# Altium footprint library UCPD.PcbLib: 11 footprints
Each footprint in its own frame and in the unit in brackets; x right, y up, seen from the top. Pads: shape width x height; smd on the part's side, far side on the other; paste and mask are expansions set on the pad; w line width, h text height; cw(c..) or ccw(c..) is an arc to the next point about the centre after c.
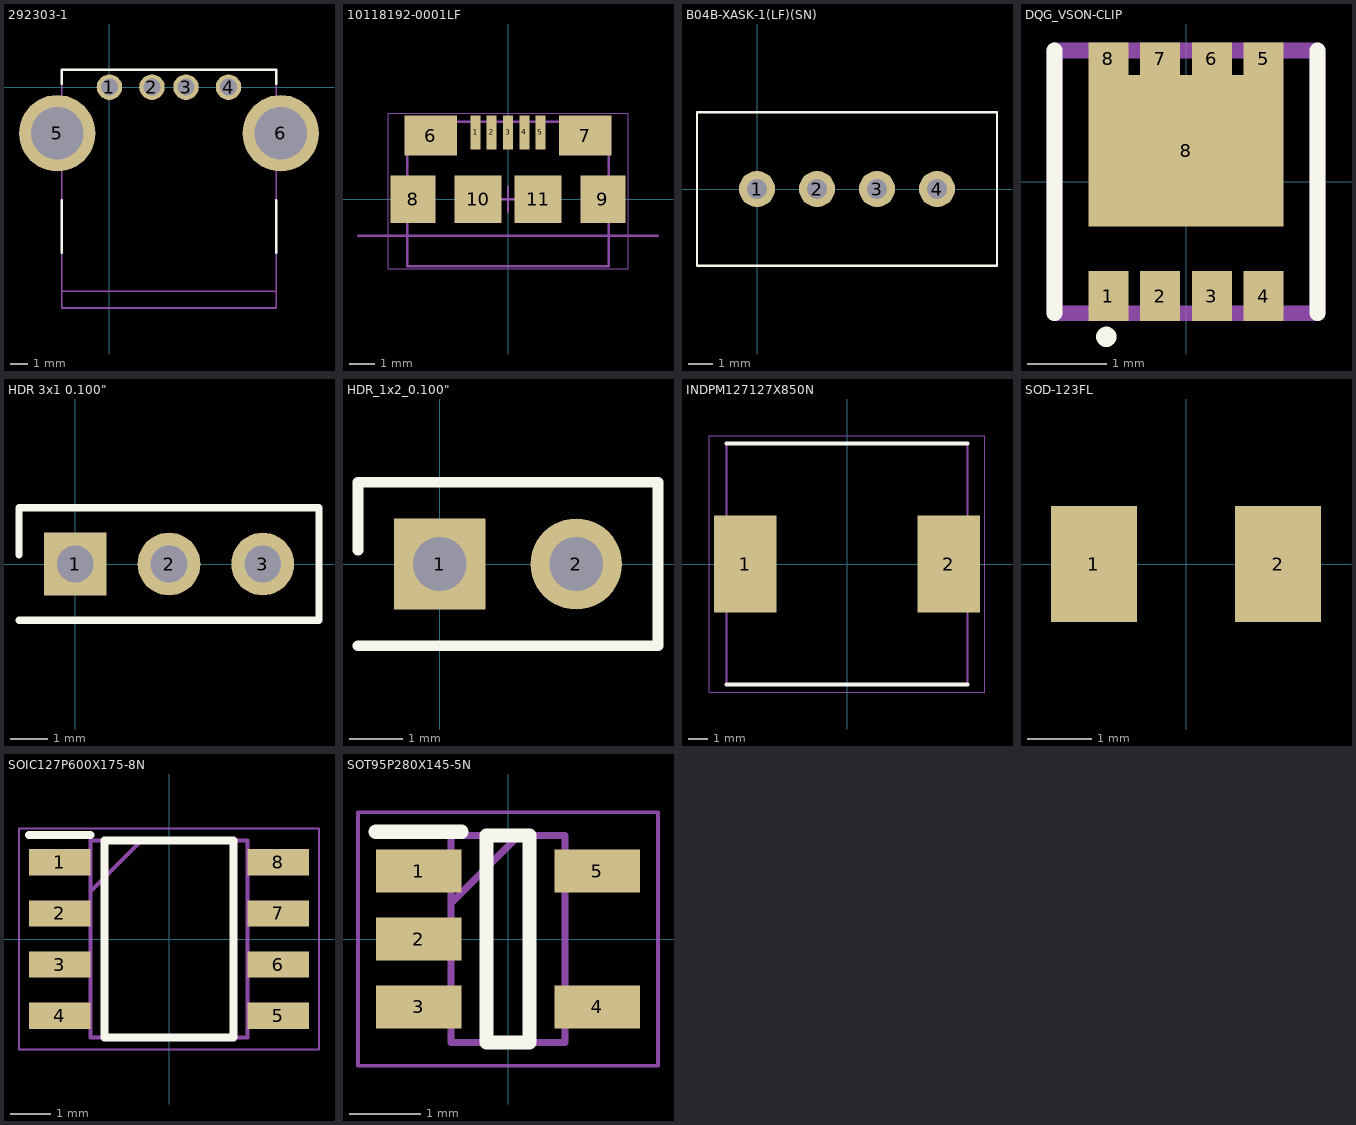
[diagram p0: the footprints below, top view; thin cyan lines are the x and y axes]

## 292303-1 [mm] "CONN RCPT USB2.0 TYPEA 4POS R/A"
pads (6):
  round 1.5 hole 1: 1(0,0) 2(2.5,0) 3(4.5,0) 4(7,0)
  round 4.5 hole 3.1: 5(-3.07,-2.71) 6(10.07,-2.71)
Top Overlay:
  lines w0.152: -2.8,-9.725 -2.8,-6.65 ; -2.8,0.2 -2.8,1.01 9.8,1.01 9.8,0.2 ; 9.8,-9.725 9.8,-6.65
Mechanical 13:
  lines w0.1: -2.8,-12 9.8,-12 ; -2.8,-12.99 -2.8,1.01 9.8,1.01 9.8,-12.99 -2.8,-12.99
3D body "292303-1.stp": height 7.82, standoff -3.54, extent -4.616,-13 11.616,1

## 10118192-0001LF [mm] "SMD, 5-Leads, Body 8.05x5.77mm, Pitch 0.65mm"
height 2.7
pads (11):
  rect 0.4x1.35 smd: 1(-1.3,2.675) 2(-0.65,2.675) 3(0,2.675) 4(0.65,2.675) 5(1.3,2.675)
  rect 2.1x1.6 smd: 6(-3.1,2.55) 7(3.1,2.55)
  rect 1.8x1.9 smd: 8(-3.8,0) 9(3.8,0)
  rect 1.9x1.9 smd: 10(-1.2,0) 11(1.2,0)
Mechanical 13:
  lines w0.1: -6,-1.45 6,-1.45 ; -4.025,-2.67 -4.025,3.1 4.025,3.1 4.025,-2.67 -4.025,-2.67
  text "PCB Edge" at -11.049,-1.016 h0.75
Mechanical 15:
  lines w0.05: -4.8,-2.77 -4.8,3.45 4.8,3.45 4.8,-2.77 -4.8,-2.77
  lines w0.1: -0.5,0 0.5,0 ; 0,-0.5 0,0.5
3D body "10118192C.stp": height 2.75, standoff -0.25, extent -3.956,-2.667 3.956,2.994

## B04B-XASK-1(LF)(SN) [mm]
pads (4):
  round 1.5 hole 0.85: 1(0,0) 2(2.5,0) 3(5,0) 4(7.5,0)
Top Overlay:
  lines w0.102: -2.5,-3.2 -2.5,3.2 10,3.2 10,-3.2 -2.5,-3.2

## DQG_VSON-CLIP [mm]
pads (9):
  rect 0.5x0.63 smd: 1(-0.975,-1.435) 2(-0.325,-1.435) 3(0.325,-1.435) 4(0.975,-1.435)
  rect 0.5x0.41 smd: 5(0.975,1.545) 6(0.325,1.545) 7(-0.325,1.545) 8(-0.975,1.545)
  rect 2.45x1.9 smd: 8(0,0.39)
Top Overlay:
  circle w0.2: c-1.001,-1.946 r0.027
  lines w0.2: -1.65,-1.65 -1.65,1.65 ; 1.65,-1.65 1.65,1.65
Mechanical 13:
  lines w0.2: -1.65,-1.65 1.65,-1.65 1.65,1.65 -1.65,1.65 -1.65,-1.65

## HDR 3x1 0.100" [mm]
pads (3):
  rect 1.7x1.7 / inner round 1.7 / far side rect 1.7x1.7 hole 1: 1(0,0)
  round 1.7 hole 1: 2(2.54,0) 3(5.08,0)
Top Overlay:
  lines w0.2: -1.524,-1.524 6.604,-1.524 6.604,1.524 -1.524,1.524 -1.524,0.254
3D body "PRPC003SAAN-RC.STEP": height 7.62, standoff -3.05, extent -1.27,-1.27 6.35,1.27

## HDR_1x2_0.100" [mm]
pads (2):
  rect 1.7x1.7 / inner round 1.7 / far side rect 1.7x1.7 hole 1: 1(0,0)
  round 1.7 hole 1: 2(2.54,0)
Top Overlay:
  lines w0.2: -1.524,-1.524 4.064,-1.524 4.064,1.524 -1.524,1.524 -1.524,0.254
3D body "PRPC002SAAN-RC.STEP": height 7.62, standoff -3.05, extent -1.27,-1.27 3.81,1.27

## INDPM127127X850N [mm]
pads (2):
  rect 3.3x5.1 smd: 1(-5.35,0) 2(5.35,0)
Top Overlay:
  lines w0.2: -6.35,-6.35 6.35,-6.35 ; -6.35,6.35 6.35,6.35
Mechanical 13:
  lines w0.1: -6.35,-6.35 -6.35,6.35 6.35,6.35 6.35,-6.35 -6.35,-6.35
Mechanical 15:
  lines w0.05: -7.25,-6.75 -7.25,6.75 7.25,6.75 7.25,-6.75 -7.25,-6.75
3D body "SRR1208-6R5ML.stp": height 8.5, standoff 0, extent -6.35,-6.35 6.35,6.35

## PCBComponent_1 [mm]

## SOD-123FL [mm]
pads (2):
  rect 1.34x1.8 smd: 1(-1.43,0) 2(1.43,0)
3D body: height 1.08, standoff 0, extent -1.5,-1 1.5,1

## SOIC127P600X175-8N [mm]
pads (8):
  rect 1.525x0.65 smd: 1(-2.712,1.905) 2(-2.712,0.635) 3(-2.712,-0.635) 4(-2.712,-1.905) 5(2.712,-1.905) 6(2.712,-0.635) 7(2.712,0.635) 8(2.712,1.905)
Top Overlay:
  lines w0.2: -3.475,2.58 -1.95,2.58 ; -1.6,-2.45 1.6,-2.45 1.6,2.45 -1.6,2.45 -1.6,-2.45
Mechanical 13:
  lines w0.1: -1.95,1.18 -0.68,2.45 ; -1.95,-2.45 1.95,-2.45 1.95,2.45 -1.95,2.45 -1.95,-2.45
Mechanical 15:
  lines w0.05: -3.725,-2.75 3.725,-2.75 3.725,2.75 -3.725,2.75 -3.725,-2.75
3D body "NE555DR.stp": height 1.75, standoff 0, extent -3,-2.45 3,2.45

## SOT95P280X145-5N [mm]
pads (5):
  rect 1.2x0.6 smd: 1(-1.25,0.95) 2(-1.25,0) 3(-1.25,-0.95) 4(1.25,-0.95) 5(1.25,0.95)
Top Overlay:
  lines w0.2: -1.85,1.5 -0.65,1.5 ; -0.3,-1.45 -0.3,1.45 0.3,1.45 0.3,-1.45 -0.3,-1.45
Mechanical 13:
  lines w0.1: -0.8,0.5 0.15,1.45 ; -0.8,-1.45 -0.8,1.45 0.8,1.45 0.8,-1.45 -0.8,-1.45
Mechanical 15:
  lines w0.05: -2.1,-1.775 -2.1,1.775 2.1,1.775 2.1,-1.775 -2.1,-1.775
3D body "SN74LVC1G126DBVR.stp": height 1.45, standoff 0, extent -1.4,-1.45 1.4,1.45